# Altium schematic symbol library TC0203620000G.SchLib: 1 symbol
Pins are listed as number, name and electrical type; pins without a type are passive.

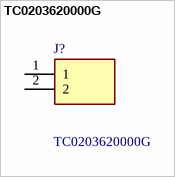
[diagram p0: symbol TC0203620000G]

## TC0203620000G
designator J?
Fixed Terminal Blocks 500 TB WIR PRO 180D; Manufacturer_Name: Amphenol; Geometry.Height: 10.5mm; Mouser Part Number: 649-TC02036200J0G; Mouser Price/Stock: https://www.mouser.co.uk/ProductDetail/Amphenol-Anytek/TC0203620000G?qs=Mv7BduZupUiHURQaUHJ1XQ%3D%3D; Manufacturer_Part_Number: TC0203620000G; Datasheet Link: https://componentsearchengine.com/Datasheets/1/TC0203620000G.pdf
footprint TC0203620000G
pins: 1, 2